# Altium integrated library National Semiconductor LDO.IntLib: 2675 symbols (part 1 of 65)
Pins are listed as number, name and electrical type; pins without a type are passive.

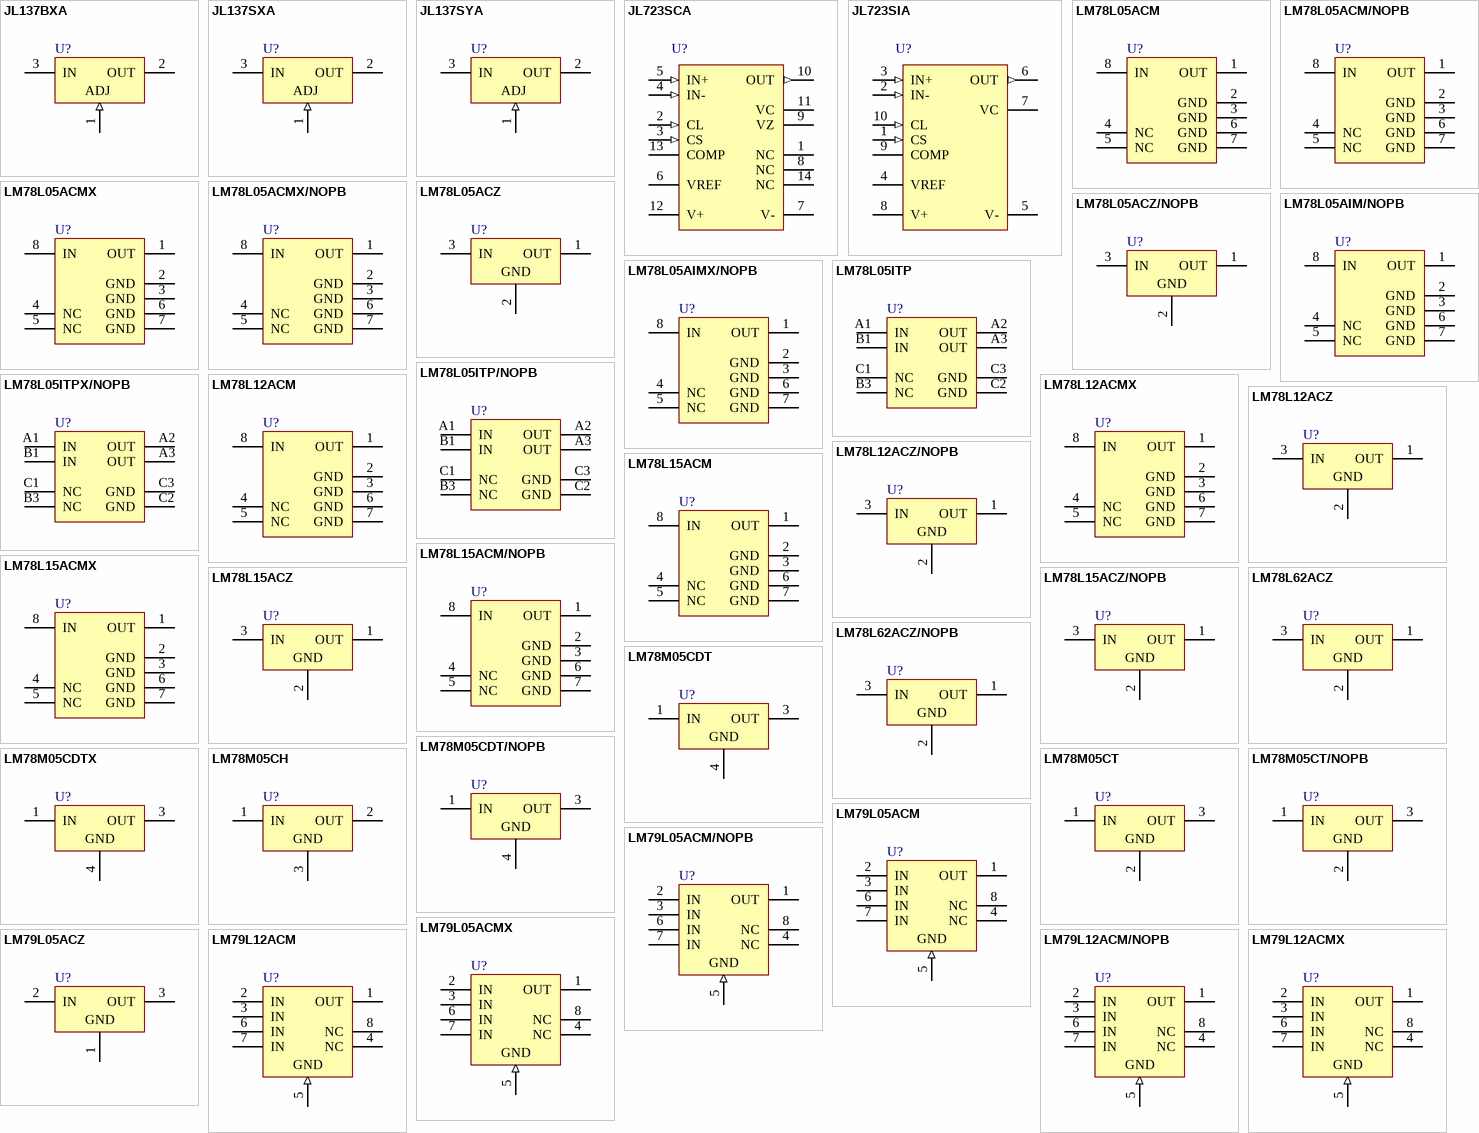
[diagram p0: symbols JL137BXA to LM79L12ACMX]

## JL137BXA
designator U?
3-Terminal Adjustable Negative Regulator, 3-pin TO-39; PartNumber: JL137BXA; Manufacturer: National Semiconductor; PackageTopMarking: NS ZSSXXYYA 27014 Q*JM38510/11803BXA; PowerWise: N; CompType: LDO IC; High-Reliability: Y; DatasheetVersion: Nov-2004; PackageVersion: revD, Feb-1995; PackageReference: H03A; PackageDescription: Metal Can, TO-39, 3 Lead, .200in Dia, P.C.; RoHS: N; PinCount: 3; Code_JEDEC: TO-39; ComponentLink1Description: Manufacturer URL; ComponentLink1URL: http://www.national.com/; ComponentLink2Description: LM137JAN Datasheet; ComponentLink2URL: http://www.national.com/ds/LM/LM137JAN.pdf; ComponentLink3Description: LM137JAN Web Page; ComponentLink3URL: http://www.national.com/pf/LM/LM137JAN.html; ComponentLink4Description: H03A Package Page; ComponentLink4URL: http://www.national.com/packaging/folders/h03a.html
footprint H03A (Can; 3 Leads; Pin Circle Dia. 5.08 mm; Lead Dia. 0.48 mm (max))
pins: 1 ADJ (in), 2 OUT (power), 3 IN (power)

## JL137SXA
designator U?
3-Terminal Adjustable Negative Regulator, 3-pin TO-39; PartNumber: JL137SXA; Manufacturer: National Semiconductor; PackageTopMarking: NS ZSSXXYYA*JM38510/11803SXA; PowerWise: N; CompType: LDO IC; High-Reliability: Y; DatasheetVersion: Nov-2004; PackageVersion: revD, Feb-1995; PackageReference: H03A; PackageDescription: Metal Can, TO-39, 3 Lead, .200in Dia, P.C.; RoHS: N; PinCount: 3; Code_JEDEC: TO-39; ComponentLink1Description: Manufacturer URL; ComponentLink1URL: http://www.national.com/; ComponentLink2Description: LM137JAN Datasheet; ComponentLink2URL: http://www.national.com/ds/LM/LM137JAN.pdf; ComponentLink3Description: LM137JAN Web Page; ComponentLink3URL: http://www.national.com/pf/LM/LM137JAN.html; ComponentLink4Description: H03A Package Page; ComponentLink4URL: http://www.national.com/packaging/folders/h03a.html
footprint H03A (Can; 3 Leads; Pin Circle Dia. 5.08 mm; Lead Dia. 0.48 mm (max))
pins: 1 ADJ (in), 2 OUT (power), 3 IN (power)

## JL137SYA
designator U?
3-Terminal Adjustable Negative Regulator, 3-pin TO-3; PartNumber: JL137SYA; Manufacturer: National Semiconductor; PackageTopMarking: NSZSSXXYYA*JM38510/*11804SYA*27014 Q; PowerWise: N; CompType: LDO IC; High-Reliability: Y; DatasheetVersion: Nov-2004; PackageVersion: revE, Sep-1995; PackageReference: K02C; PackageDescription: Metal Can TO-3, 2 Lead, Low Profile; RoHS: N; PinCount: 2; ComponentLink1Description: Manufacturer URL; ComponentLink1URL: http://www.national.com/; ComponentLink2Description: LM137JAN Datasheet; ComponentLink2URL: http://www.national.com/ds/LM/LM137JAN.pdf; ComponentLink3Description: LM137JAN Web Page; ComponentLink3URL: http://www.national.com/pf/LM/LM137JAN.html; ComponentLink4Description: K02C Package Page; ComponentLink4URL: http://www.national.com/packaging/folders/k02c.html
footprint K02C (Oval Flange Mount with (2) Offset Leads; Pin Spacing 10.92 mm; Lead Dia. 1.09 mm (max))
pins: 1 ADJ (in), 2 OUT (power), 3 IN (power)

## JL723SCA
designator U?
Voltage Regulator, 14-pin CerDIP; PartNumber: JL723SCA; Manufacturer: National Semiconductor; PackageTopMarking: NS ZSSXXYYA*JM38510/10201SCA*27014 Q; PowerWise: N; CompType: LDO IC; High-Reliability: Y; DatasheetVersion: Jun-1999; PackageVersion: revJ, Jul-2002; PackageReference: J14A; PackageDescription: Cerdip, .400 x .310in Body, 14 Lead, .300in Centers, .100in Pitch; RoHS: N; PinCount: 14; ComponentLink1Description: Manufacturer URL; ComponentLink1URL: http://www.national.com/; ComponentLink2Description: LM723JAN Datasheet; ComponentLink2URL: http://www.national.com/ds/LM/LM723JAN.pdf; ComponentLink3Description: LM723JAN Web Page; ComponentLink3URL: http://www.national.com/pf/LM/LM723JAN.html; ComponentLink4Description: J14A Package Page; ComponentLink4URL: http://www.national.com/packaging/folders/j14a.html
footprint J14A (DIP, 14-Leads, Row Spacing 7.62mm, Pitch 2.54mm, Body 19.56x6.73mm)
pins: 1 NC, 2 CL (in), 3 CS (in), 4 IN- (in), 5 IN+ (in), 6 VREF (power), 7 V- (power), 8 NC, 9 VZ (power), 10 OUT (out), 11 VC (power), 12 V+ (power), 13 COMP, 14 NC

## JL723SIA
designator U?
Voltage Regulator, 10-pin TO-100; PartNumber: JL723SIA; Manufacturer: National Semiconductor; PackageTopMarking: NS ZSSXXYYA*JM38510/10201SIA; PowerWise: N; CompType: LDO IC; High-Reliability: Y; DatasheetVersion: Jun-1999; PackageVersion: revG, Nov-2008; PackageReference: H10C; PackageDescription: Metal Can, TO-100, 10 Lead, .230in Dia, P.C.; RoHS: N; PinCount: 10; ComponentLink1Description: Manufacturer URL; ComponentLink1URL: http://www.national.com/; ComponentLink2Description: LM723JAN Datasheet; ComponentLink2URL: http://www.national.com/ds/LM/LM723JAN.pdf; ComponentLink3Description: LM723JAN Web Page; ComponentLink3URL: http://www.national.com/pf/LM/LM723JAN.html; ComponentLink4Description: H10C Package Page; ComponentLink4URL: http://www.national.com/packaging/folders/h10c.html
footprint H10C (Can; 10 Leads; Pin Circle Dia. 5.84 mm; Lead Dia. 0.48 mm (max))
pins: 1 CS (in), 2 IN- (in), 3 IN+ (in), 4 VREF (power), 5 V- (power), 6 OUT (out), 7 VC (power), 8 V+ (power), 9 COMP, 10 CL (in)

## LM78L05ACM
designator U?
3-Terminal Positive Regulator, 5 Vout, 8-pin Narrow SOIC, 95 Rail; PartNumber: LM78L05ACM; Manufacturer: National Semiconductor; PackageTopMarking: NSZXTT*LM78L*05ACM; PowerWise: N; CompType: LDO IC; High-Reliability: Y; DatasheetVersion: Apr-2011; PackageVersion: revM, May-2009; PackageReference: M08A; PackageDescription: SOIC Narrow, 4.9 x 3.9 x 1.45mm, 8 Lead, 1.27mm Pitch; RoHS: N; PinCount: 8; Code_JEDEC: MS-012-AA; Code_IPC: SOIC127P600-8; ComponentLink1Description: Manufacturer URL; ComponentLink1URL: http://www.national.com/; ComponentLink2Description: LM78L05 Datasheet; ComponentLink2URL: http://www.national.com/ds/LM/LM78L05.pdf; ComponentLink3Description: LM78L05 Web Page; ComponentLink3URL: http://www.national.com/pf/LM/LM78L05.html; ComponentLink4Description: M08A Package Page; ComponentLink4URL: http://www.national.com/packaging/folders/m08a.html
footprint M08A_N (SOIC, 8-Leads, Body 4.9x3.9mm, Pitch 1.27mm, IPC Medium Density)
footprint M08A_L (SOIC, 8-Leads, Body 4.9x3.9mm, Pitch 1.27mm, IPC High Density)
footprint M08A_M (SOIC, 8-Leads, Body 4.9x3.9mm, Pitch 1.27mm, IPC Low Density)
pins: 1 OUT (power), 2 GND (power), 3 GND (power), 4 NC, 5 NC, 6 GND (power), 7 GND (power), 8 IN (power)

## LM78L05ACM/NOPB
designator U?
3-Terminal Positive Regulator, 5 Vout, 8-pin Narrow SOIC, Pb-Free, 2500 Reel; PartNumber: LM78L05ACM/NOPB; Manufacturer: National Semiconductor; PackageTopMarking: NSZXTT*LM78L*05ACM; PowerWise: N; CompType: LDO IC; High-Reliability: Y; DatasheetVersion: Apr-2011; PackageVersion: revM, May-2009; PackageReference: M08A; PackageDescription: SOIC Narrow, 4.9 x 3.9 x 1.45mm, 8 Lead, 1.27mm Pitch; RoHS: Y; PinCount: 8; Code_JEDEC: MS-012-AA; Code_IPC: SOIC127P600-8; ComponentLink1Description: Manufacturer URL; ComponentLink1URL: http://www.national.com/; ComponentLink2Description: LM78L05 Datasheet; ComponentLink2URL: http://www.national.com/ds/LM/LM78L05.pdf; ComponentLink3Description: LM78L05 Web Page; ComponentLink3URL: http://www.national.com/pf/LM/LM78L05.html; ComponentLink4Description: M08A Package Page; ComponentLink4URL: http://www.national.com/packaging/folders/m08a.html
footprint M08A_N (SOIC, 8-Leads, Body 4.9x3.9mm, Pitch 1.27mm, IPC Medium Density)
footprint M08A_L (SOIC, 8-Leads, Body 4.9x3.9mm, Pitch 1.27mm, IPC High Density)
footprint M08A_M (SOIC, 8-Leads, Body 4.9x3.9mm, Pitch 1.27mm, IPC Low Density)
pins: 1 OUT (power), 2 GND (power), 3 GND (power), 4 NC, 5 NC, 6 GND (power), 7 GND (power), 8 IN (power)

## LM78L05ACMX
designator U?
3-Terminal Positive Regulator, 5 Vout, 8-pin Narrow SOIC, 2500 Reel; PartNumber: LM78L05ACMX; Manufacturer: National Semiconductor; PackageTopMarking: NSZXTT*LM78L*05ACM; PowerWise: N; CompType: LDO IC; High-Reliability: Y; DatasheetVersion: Apr-2011; PackageVersion: revM, May-2009; PackageReference: M08A; PackageDescription: SOIC Narrow, 4.9 x 3.9 x 1.45mm, 8 Lead, 1.27mm Pitch; RoHS: N; PinCount: 8; Code_JEDEC: MS-012-AA; Code_IPC: SOIC127P600-8; ComponentLink1Description: Manufacturer URL; ComponentLink1URL: http://www.national.com/; ComponentLink2Description: LM78L05 Datasheet; ComponentLink2URL: http://www.national.com/ds/LM/LM78L05.pdf; ComponentLink3Description: LM78L05 Web Page; ComponentLink3URL: http://www.national.com/pf/LM/LM78L05.html; ComponentLink4Description: M08A Package Page; ComponentLink4URL: http://www.national.com/packaging/folders/m08a.html
footprint M08A_N (SOIC, 8-Leads, Body 4.9x3.9mm, Pitch 1.27mm, IPC Medium Density)
footprint M08A_L (SOIC, 8-Leads, Body 4.9x3.9mm, Pitch 1.27mm, IPC High Density)
footprint M08A_M (SOIC, 8-Leads, Body 4.9x3.9mm, Pitch 1.27mm, IPC Low Density)
pins: 1 OUT (power), 2 GND (power), 3 GND (power), 4 NC, 5 NC, 6 GND (power), 7 GND (power), 8 IN (power)

## LM78L05ACMX/NOPB
designator U?
3-Terminal Positive Regulator, 5 Vout, 8-pin Narrow SOIC, 2500 Reel; PartNumber: LM78L05ACMX/NOPB; Manufacturer: National Semiconductor; PowerWise: N; CompType: LDO IC; High-Reliability: Y; DatasheetVersion: Apr-2011; PackageVersion: revM, May-2009; PackageReference: M08A; PackageDescription: SOIC Narrow, 4.9 x 3.9 x 1.45mm, 8 Lead, 1.27mm Pitch; RoHS: Y; PinCount: 8; Code_JEDEC: MS-012-AA; Code_IPC: SOIC127P600-8; ComponentLink1Description: Manufacturer URL; ComponentLink1URL: http://www.national.com/; ComponentLink2Description: LM78L05 Datasheet; ComponentLink2URL: http://www.national.com/ds/LM/LM78L05.pdf; ComponentLink3Description: LM78L05 Web Page; ComponentLink3URL: http://www.national.com/pf/LM/LM78L05.html; ComponentLink4Description: M08A Package Page; ComponentLink4URL: http://www.national.com/packaging/folders/m08a.html
footprint M08A_N (SOIC, 8-Leads, Body 4.9x3.9mm, Pitch 1.27mm, IPC Medium Density)
footprint M08A_L (SOIC, 8-Leads, Body 4.9x3.9mm, Pitch 1.27mm, IPC High Density)
footprint M08A_M (SOIC, 8-Leads, Body 4.9x3.9mm, Pitch 1.27mm, IPC Low Density)
pins: 1 OUT (power), 2 GND (power), 3 GND (power), 4 NC, 5 NC, 6 GND (power), 7 GND (power), 8 IN (power)

## LM78L05ACZ
designator U?
3-Terminal Positive Regulators, 3-pin TO-92; PartNumber: LM78L05ACZ; Manufacturer: National Semiconductor; PackageTopMarking: NSXYTT*LM78L*05ACZ; PowerWise: N; CompType: LDO IC; High-Reliability: Y; DatasheetVersion: Apr-2006; PackageVersion: revG, Sep-2000; PackageReference: Z03A; PackageDescription: TO-92, Molded, 3 Lead; RoHS: N; PinCount: 3; Code_JEDEC: TO-226-AA; ComponentLink1Description: Manufacturer URL; ComponentLink1URL: http://www.national.com/; ComponentLink2Description: LM78L05 Datasheet; ComponentLink2URL: http://www.national.com/ds/LM/LM78L05.pdf; ComponentLink3Description: LM78L05 Web Page; ComponentLink3URL: http://www.national.com/pf/LM/LM78L05.html; ComponentLink4Description: Z03A Package Page; ComponentLink4URL: http://www.national.com/packaging/folders/z03a.html
footprint Z03A (TO, Flat Index; 3 In-Line, Axial Leads; Body Dia. 5mm; Leads 0.55 x 0.50 mm (max))
pins: 1 OUT (power), 2 GND (power), 3 IN (power)

## LM78L05ACZ/NOPB
designator U?
3-Terminal Positive Regulator, 5 Vout, 3-pin TO-92, Pb-Free; PartNumber: LM78L05ACZ/NOPB; Manufacturer: National Semiconductor; PackageTopMarking: NSXYTT*LM78L*05ACZ; PowerWise: N; CompType: LDO IC; High-Reliability: Y; DatasheetVersion: Apr-2011; PackageVersion: revG, Sep-2000; PackageReference: Z03A; PackageDescription: TO-92, Molded, 3 Lead; RoHS: Y; PinCount: 3; Code_JEDEC: TO-226-AA; ComponentLink1Description: Manufacturer URL; ComponentLink1URL: http://www.national.com/; ComponentLink2Description: LM78L05 Datasheet; ComponentLink2URL: http://www.national.com/ds/LM/LM78L05.pdf; ComponentLink3Description: LM78L05 Web Page; ComponentLink3URL: http://www.national.com/pf/LM/LM78L05.html; ComponentLink4Description: Z03A Package Page; ComponentLink4URL: http://www.national.com/packaging/folders/z03a.html
footprint Z03A (TO, Flat Index; 3 In-Line, Axial Leads; Body Dia. 5mm; Leads 0.55 x 0.50 mm (max))
pins: 1 OUT (power), 2 GND (power), 3 IN (power)

## LM78L05AIM/NOPB
designator U?
3-Terminal Positive Regulator, 5 Vout, 8-pin Narrow SOIC, 95 Rail; PartNumber: LM78L05AIM/NOPB; Manufacturer: National Semiconductor; PackageTopMarking: NSZXTT*LM78L*05AM; PowerWise: N; CompType: LDO IC; High-Reliability: Y; DatasheetVersion: Apr-2011; PackageVersion: revM, May-2009; PackageReference: M08A; PackageDescription: SOIC Narrow, 4.9 x 3.9 x 1.45mm, 8 Lead, 1.27mm Pitch; RoHS: Y; PinCount: 8; Code_JEDEC: MS-012-AA; Code_IPC: SOIC127P600-8; ComponentLink1Description: Manufacturer URL; ComponentLink1URL: http://www.national.com/; ComponentLink2Description: LM78L05 Datasheet; ComponentLink2URL: http://www.national.com/ds/LM/LM78L05.pdf; ComponentLink3Description: LM78L05 Web Page; ComponentLink3URL: http://www.national.com/pf/LM/LM78L05.html; ComponentLink4Description: M08A Package Page; ComponentLink4URL: http://www.national.com/packaging/folders/m08a.html
footprint M08A_N (SOIC, 8-Leads, Body 4.9x3.9mm, Pitch 1.27mm, IPC Medium Density)
footprint M08A_L (SOIC, 8-Leads, Body 4.9x3.9mm, Pitch 1.27mm, IPC High Density)
footprint M08A_M (SOIC, 8-Leads, Body 4.9x3.9mm, Pitch 1.27mm, IPC Low Density)
pins: 1 OUT (power), 2 GND (power), 3 GND (power), 4 NC, 5 NC, 6 GND (power), 7 GND (power), 8 IN (power)

## LM78L05AIMX/NOPB
designator U?
3-Terminal Positive Regulator, 5 Vout, 8-pin Narrow SOIC, 2500 Reel; PartNumber: LM78L05AIMX/NOPB; Manufacturer: National Semiconductor; PackageTopMarking: NSZXTT*LM78L*05AM; PowerWise: N; CompType: LDO IC; High-Reliability: Y; DatasheetVersion: Apr-2011; PackageVersion: revM, May-2009; PackageReference: M08A; PackageDescription: SOIC Narrow, 4.9 x 3.9 x 1.45mm, 8 Lead, 1.27mm Pitch; RoHS: Y; PinCount: 8; Code_JEDEC: MS-012-AA; Code_IPC: SOIC127P600-8; ComponentLink1Description: Manufacturer URL; ComponentLink1URL: http://www.national.com/; ComponentLink2Description: LM78L05 Datasheet; ComponentLink2URL: http://www.national.com/ds/LM/LM78L05.pdf; ComponentLink3Description: LM78L05 Web Page; ComponentLink3URL: http://www.national.com/pf/LM/LM78L05.html; ComponentLink4Description: M08A Package Page; ComponentLink4URL: http://www.national.com/packaging/folders/m08a.html
footprint M08A_N (SOIC, 8-Leads, Body 4.9x3.9mm, Pitch 1.27mm, IPC Medium Density)
footprint M08A_L (SOIC, 8-Leads, Body 4.9x3.9mm, Pitch 1.27mm, IPC High Density)
footprint M08A_M (SOIC, 8-Leads, Body 4.9x3.9mm, Pitch 1.27mm, IPC Low Density)
pins: 1 OUT (power), 2 GND (power), 3 GND (power), 4 NC, 5 NC, 6 GND (power), 7 GND (power), 8 IN (power)

## LM78L05ITP
designator U?
3-Terminal Positive Regulators, 8-pin Micro SMD; PartNumber: LM78L05ITP; Manufacturer: National Semiconductor; PackageTopMarking: XVP*I 03; PowerWise: N; CompType: LDO IC; High-Reliability: Y; DatasheetVersion: Apr-2006; PackageVersion: revA, Mar-2002; PackageReference: TPA08AAA; PackageDescription: Thin Micro SMD, 8 Bump, 0.5mm Pitch; RoHS: Y; PinCount: 8; Code_JEDEC: MO-211-BC; ComponentLink1Description: Manufacturer URL; ComponentLink1URL: http://www.national.com/; ComponentLink2Description: LM78L05 Datasheet; ComponentLink2URL: http://www.national.com/ds/LM/LM78L05.pdf; ComponentLink3Description: LM78L05 Web Page; ComponentLink3URL: http://www.national.com/pf/LM/LM78L05.html; ComponentLink4Description: TPA08AAA Package Page; ComponentLink4URL: http://www.national.com/packaging/folders/tpa08aaa.html
footprint TPA08AAA (Micro SMD, 8-Leads, Body 1.29x1.29mm, Pitch 0.5mm, NSC Recommended)
pins: A1 IN (power), A2 OUT (power), A3 OUT (power), B1 IN (power), B3 NC, C1 NC, C2 GND (power), C3 GND (power)

## LM78L05ITP/NOPB
designator U?
3-Terminal Positive Regulator, 5 Vout, 8-pin Micro SMD, Pb-Free, 250 Reel; PartNumber: LM78L05ITP/NOPB; Manufacturer: National Semiconductor; PackageTopMarking: XVP*I 03; PowerWise: N; CompType: LDO IC; High-Reliability: Y; DatasheetVersion: Apr-2011; PackageVersion: revA, Mar-2002; PackageReference: TPA08AAA; PackageDescription: Thin Micro SMD, 8 Bump, 0.5mm Pitch; RoHS: Y; PinCount: 8; Code_JEDEC: MO-211-BC; ComponentLink1Description: Manufacturer URL; ComponentLink1URL: http://www.national.com/; ComponentLink2Description: LM78L05 Datasheet; ComponentLink2URL: http://www.national.com/ds/LM/LM78L05.pdf; ComponentLink3Description: LM78L05 Web Page; ComponentLink3URL: http://www.national.com/pf/LM/LM78L05.html; ComponentLink4Description: TPA08AAA Package Page; ComponentLink4URL: http://www.national.com/packaging/folders/tpa08aaa.html
footprint TPA08AAA (Micro SMD, 8-Leads, Body 1.29x1.29mm, Pitch 0.5mm, NSC Recommended)
pins: A1 IN (power), A2 OUT (power), A3 OUT (power), B1 IN (power), B3 NC, C1 NC, C2 GND (power), C3 GND (power)

## LM78L05ITPX/NOPB
designator U?
3-Terminal Positive Regulator, 5 Vout, 8-pin Micro SMD, Pb-Free, 3000 Reel; PartNumber: LM78L05ITPX/NOPB; Manufacturer: National Semiconductor; PackageTopMarking: XVP*I 03; PowerWise: N; CompType: LDO IC; High-Reliability: Y; DatasheetVersion: Apr-2011; PackageVersion: revA, Mar-2002; PackageReference: TPA08AAA; PackageDescription: Thin Micro SMD, 8 Bump, 0.5mm Pitch; RoHS: Y; PinCount: 8; Code_JEDEC: MO-211-BC; ComponentLink1Description: Manufacturer URL; ComponentLink1URL: http://www.national.com/; ComponentLink2Description: LM78L05 Datasheet; ComponentLink2URL: http://www.national.com/ds/LM/LM78L05.pdf; ComponentLink3Description: LM78L05 Web Page; ComponentLink3URL: http://www.national.com/pf/LM/LM78L05.html; ComponentLink4Description: TPA08AAA Package Page; ComponentLink4URL: http://www.national.com/packaging/folders/tpa08aaa.html
footprint TPA08AAA (Micro SMD, 8-Leads, Body 1.29x1.29mm, Pitch 0.5mm, NSC Recommended)
pins: A1 IN (power), A2 OUT (power), A3 OUT (power), B1 IN (power), B3 NC, C1 NC, C2 GND (power), C3 GND (power)

## LM78L12ACM
designator U?
3-Terminal Positive Regulators, 8-pin Narrow SOIC; PartNumber: LM78L12ACM; Manufacturer: National Semiconductor; PackageTopMarking: NSZXTT*LM78L*12ACM; PowerWise: N; CompType: LDO IC; High-Reliability: Y; DatasheetVersion: Apr-2006; PackageVersion: revM, May-2009; PackageReference: M08A; PackageDescription: SOIC Narrow, 4.9 x 3.9 x 1.45mm, 8 Lead, 1.27mm Pitch; RoHS: N; PinCount: 8; Code_JEDEC: MS-012-AA; Code_IPC: SOIC127P600-8; ComponentLink1Description: Manufacturer URL; ComponentLink1URL: http://www.national.com/; ComponentLink2Description: LM78L12 Datasheet; ComponentLink2URL: http://www.national.com/ds/LM/LM78L12.pdf; ComponentLink3Description: LM78L12 Web Page; ComponentLink3URL: http://www.national.com/pf/LM/LM78L12.html; ComponentLink4Description: M08A Package Page; ComponentLink4URL: http://www.national.com/packaging/folders/m08a.html
footprint M08A_N (SOIC, 8-Leads, Body 4.9x3.9mm, Pitch 1.27mm, IPC Medium Density)
footprint M08A_L (SOIC, 8-Leads, Body 4.9x3.9mm, Pitch 1.27mm, IPC High Density)
footprint M08A_M (SOIC, 8-Leads, Body 4.9x3.9mm, Pitch 1.27mm, IPC Low Density)
pins: 1 OUT (power), 2 GND (power), 3 GND (power), 4 NC, 5 NC, 6 GND (power), 7 GND (power), 8 IN (power)

## LM78L12ACMX
designator U?
3-Terminal Positive Regulators, 8-pin Narrow SOIC; PartNumber: LM78L12ACMX; Manufacturer: National Semiconductor; PackageTopMarking: NSZXTT*LM78L*12ACM; PowerWise: N; CompType: LDO IC; High-Reliability: Y; DatasheetVersion: Apr-2006; PackageVersion: revM, May-2009; PackageReference: M08A; PackageDescription: SOIC Narrow, 4.9 x 3.9 x 1.45mm, 8 Lead, 1.27mm Pitch; RoHS: N; PinCount: 8; Code_JEDEC: MS-012-AA; Code_IPC: SOIC127P600-8; ComponentLink1Description: Manufacturer URL; ComponentLink1URL: http://www.national.com/; ComponentLink2Description: LM78L12 Datasheet; ComponentLink2URL: http://www.national.com/ds/LM/LM78L12.pdf; ComponentLink3Description: LM78L12 Web Page; ComponentLink3URL: http://www.national.com/pf/LM/LM78L12.html; ComponentLink4Description: M08A Package Page; ComponentLink4URL: http://www.national.com/packaging/folders/m08a.html
footprint M08A_N (SOIC, 8-Leads, Body 4.9x3.9mm, Pitch 1.27mm, IPC Medium Density)
footprint M08A_L (SOIC, 8-Leads, Body 4.9x3.9mm, Pitch 1.27mm, IPC High Density)
footprint M08A_M (SOIC, 8-Leads, Body 4.9x3.9mm, Pitch 1.27mm, IPC Low Density)
pins: 1 OUT (power), 2 GND (power), 3 GND (power), 4 NC, 5 NC, 6 GND (power), 7 GND (power), 8 IN (power)

## LM78L12ACZ
designator U?
3-Terminal Positive Regulators, 3-pin TO-92; PartNumber: LM78L12ACZ; Manufacturer: National Semiconductor; PackageTopMarking: NSXYTT*LM78L*12ACZ; PowerWise: N; CompType: LDO IC; High-Reliability: Y; DatasheetVersion: Apr-2006; PackageVersion: revG, Sep-2000; PackageReference: Z03A; PackageDescription: TO-92, Molded, 3 Lead; RoHS: N; PinCount: 3; Code_JEDEC: TO-226-AA; ComponentLink1Description: Manufacturer URL; ComponentLink1URL: http://www.national.com/; ComponentLink2Description: LM78L12 Datasheet; ComponentLink2URL: http://www.national.com/ds/LM/LM78L12.pdf; ComponentLink3Description: LM78L12 Web Page; ComponentLink3URL: http://www.national.com/pf/LM/LM78L12.html; ComponentLink4Description: Z03A Package Page; ComponentLink4URL: http://www.national.com/packaging/folders/z03a.html
footprint Z03A (TO, Flat Index; 3 In-Line, Axial Leads; Body Dia. 5mm; Leads 0.55 x 0.50 mm (max))
pins: 1 OUT (power), 2 GND (power), 3 IN (power)

## LM78L12ACZ/NOPB
designator U?
3-Terminal Positive Regulators, 3-pin TO-92, Pb-Free; PartNumber: LM78L12ACZ/NOPB; Manufacturer: National Semiconductor; PackageTopMarking: NSXYTT*LM78L*12ACZ; PowerWise: N; CompType: LDO IC; High-Reliability: Y; DatasheetVersion: Apr-2006; PackageVersion: revG, Sep-2000; PackageReference: Z03A; PackageDescription: TO-92, Molded, 3 Lead; RoHS: Y; PinCount: 3; Code_JEDEC: TO-226-AA; ComponentLink1Description: Manufacturer URL; ComponentLink1URL: http://www.national.com/; ComponentLink2Description: LM78L12 Datasheet; ComponentLink2URL: http://www.national.com/ds/LM/LM78L12.pdf; ComponentLink3Description: LM78L12 Web Page; ComponentLink3URL: http://www.national.com/pf/LM/LM78L12.html; ComponentLink4Description: Z03A Package Page; ComponentLink4URL: http://www.national.com/packaging/folders/z03a.html
footprint Z03A (TO, Flat Index; 3 In-Line, Axial Leads; Body Dia. 5mm; Leads 0.55 x 0.50 mm (max))
pins: 1 OUT (power), 2 GND (power), 3 IN (power)

## LM78L15ACM
designator U?
3-Terminal Positive Regulators, 8-pin Narrow SOIC; PartNumber: LM78L15ACM; Manufacturer: National Semiconductor; PackageTopMarking: NSZXTT*LM78L*15ACM; PowerWise: N; CompType: LDO IC; High-Reliability: Y; DatasheetVersion: Apr-2006; PackageVersion: revM, May-2009; PackageReference: M08A; PackageDescription: SOIC Narrow, 4.9 x 3.9 x 1.45mm, 8 Lead, 1.27mm Pitch; RoHS: N; PinCount: 8; Code_JEDEC: MS-012-AA; Code_IPC: SOIC127P600-8; ComponentLink1Description: Manufacturer URL; ComponentLink1URL: http://www.national.com/; ComponentLink2Description: LM78L15 Datasheet; ComponentLink2URL: http://www.national.com/ds/LM/LM78L15.pdf; ComponentLink3Description: LM78L15 Web Page; ComponentLink3URL: http://www.national.com/pf/LM/LM78L15.html; ComponentLink4Description: M08A Package Page; ComponentLink4URL: http://www.national.com/packaging/folders/m08a.html
footprint M08A_N (SOIC, 8-Leads, Body 4.9x3.9mm, Pitch 1.27mm, IPC Medium Density)
footprint M08A_L (SOIC, 8-Leads, Body 4.9x3.9mm, Pitch 1.27mm, IPC High Density)
footprint M08A_M (SOIC, 8-Leads, Body 4.9x3.9mm, Pitch 1.27mm, IPC Low Density)
pins: 1 OUT (power), 2 GND (power), 3 GND (power), 4 NC, 5 NC, 6 GND (power), 7 GND (power), 8 IN (power)

## LM78L15ACM/NOPB
designator U?
3-Terminal Positive Regulators, 8-pin Narrow SOIC, Pb-Free; PartNumber: LM78L15ACM/NOPB; Manufacturer: National Semiconductor; PackageTopMarking: NSZXTT*LM78L*15ACM; PowerWise: N; CompType: LDO IC; High-Reliability: Y; DatasheetVersion: Apr-2006; PackageVersion: revM, May-2009; PackageReference: M08A; PackageDescription: SOIC Narrow, 4.9 x 3.9 x 1.45mm, 8 Lead, 1.27mm Pitch; RoHS: Y; PinCount: 8; Code_JEDEC: MS-012-AA; Code_IPC: SOIC127P600-8; ComponentLink1Description: Manufacturer URL; ComponentLink1URL: http://www.national.com/; ComponentLink2Description: LM78L15 Datasheet; ComponentLink2URL: http://www.national.com/ds/LM/LM78L15.pdf; ComponentLink3Description: LM78L15 Web Page; ComponentLink3URL: http://www.national.com/pf/LM/LM78L15.html; ComponentLink4Description: M08A Package Page; ComponentLink4URL: http://www.national.com/packaging/folders/m08a.html
footprint M08A_N (SOIC, 8-Leads, Body 4.9x3.9mm, Pitch 1.27mm, IPC Medium Density)
footprint M08A_L (SOIC, 8-Leads, Body 4.9x3.9mm, Pitch 1.27mm, IPC High Density)
footprint M08A_M (SOIC, 8-Leads, Body 4.9x3.9mm, Pitch 1.27mm, IPC Low Density)
pins: 1 OUT (power), 2 GND (power), 3 GND (power), 4 NC, 5 NC, 6 GND (power), 7 GND (power), 8 IN (power)

## LM78L15ACMX
designator U?
3-Terminal Positive Regulators, 8-pin Narrow SOIC; PartNumber: LM78L15ACMX; Manufacturer: National Semiconductor; PackageTopMarking: NSZXTT*LM78L*15ACM; PowerWise: N; CompType: LDO IC; High-Reliability: Y; DatasheetVersion: Apr-2006; PackageVersion: revM, May-2009; PackageReference: M08A; PackageDescription: SOIC Narrow, 4.9 x 3.9 x 1.45mm, 8 Lead, 1.27mm Pitch; RoHS: N; PinCount: 8; Code_JEDEC: MS-012-AA; Code_IPC: SOIC127P600-8; ComponentLink1Description: Manufacturer URL; ComponentLink1URL: http://www.national.com/; ComponentLink2Description: LM78L15 Datasheet; ComponentLink2URL: http://www.national.com/ds/LM/LM78L15.pdf; ComponentLink3Description: LM78L15 Web Page; ComponentLink3URL: http://www.national.com/pf/LM/LM78L15.html; ComponentLink4Description: M08A Package Page; ComponentLink4URL: http://www.national.com/packaging/folders/m08a.html
footprint M08A_N (SOIC, 8-Leads, Body 4.9x3.9mm, Pitch 1.27mm, IPC Medium Density)
footprint M08A_L (SOIC, 8-Leads, Body 4.9x3.9mm, Pitch 1.27mm, IPC High Density)
footprint M08A_M (SOIC, 8-Leads, Body 4.9x3.9mm, Pitch 1.27mm, IPC Low Density)
pins: 1 OUT (power), 2 GND (power), 3 GND (power), 4 NC, 5 NC, 6 GND (power), 7 GND (power), 8 IN (power)

## LM78L15ACZ
designator U?
3-Terminal Positive Regulators, 3-pin TO-92; PartNumber: LM78L15ACZ; Manufacturer: National Semiconductor; PackageTopMarking: NSXYTT*LM78L*15ACZ; PowerWise: N; CompType: LDO IC; High-Reliability: Y; DatasheetVersion: Apr-2006; PackageVersion: revG, Sep-2000; PackageReference: Z03A; PackageDescription: TO-92, Molded, 3 Lead; RoHS: N; PinCount: 3; Code_JEDEC: TO-226-AA; ComponentLink1Description: Manufacturer URL; ComponentLink1URL: http://www.national.com/; ComponentLink2Description: LM78L15 Datasheet; ComponentLink2URL: http://www.national.com/ds/LM/LM78L15.pdf; ComponentLink3Description: LM78L15 Web Page; ComponentLink3URL: http://www.national.com/pf/LM/LM78L15.html; ComponentLink4Description: Z03A Package Page; ComponentLink4URL: http://www.national.com/packaging/folders/z03a.html
footprint Z03A (TO, Flat Index; 3 In-Line, Axial Leads; Body Dia. 5mm; Leads 0.55 x 0.50 mm (max))
pins: 1 OUT (power), 2 GND (power), 3 IN (power)

## LM78L15ACZ/NOPB
designator U?
3-Terminal Positive Regulators, 3-pin TO-92, Pb-Free; PartNumber: LM78L15ACZ/NOPB; Manufacturer: National Semiconductor; PackageTopMarking: NSXYTT*LM78L*15ACZ; PowerWise: N; CompType: LDO IC; High-Reliability: Y; DatasheetVersion: Apr-2006; PackageVersion: revG, Sep-2000; PackageReference: Z03A; PackageDescription: TO-92, Molded, 3 Lead; RoHS: Y; PinCount: 3; Code_JEDEC: TO-226-AA; ComponentLink1Description: Manufacturer URL; ComponentLink1URL: http://www.national.com/; ComponentLink2Description: LM78L15 Datasheet; ComponentLink2URL: http://www.national.com/ds/LM/LM78L15.pdf; ComponentLink3Description: LM78L15 Web Page; ComponentLink3URL: http://www.national.com/pf/LM/LM78L15.html; ComponentLink4Description: Z03A Package Page; ComponentLink4URL: http://www.national.com/packaging/folders/z03a.html
footprint Z03A (TO, Flat Index; 3 In-Line, Axial Leads; Body Dia. 5mm; Leads 0.55 x 0.50 mm (max))
pins: 1 OUT (power), 2 GND (power), 3 IN (power)

## LM78L62ACZ
designator U?
3-Terminal Positive Regulators, 3-pin TO-92; PartNumber: LM78L62ACZ; Manufacturer: National Semiconductor; PackageTopMarking: NSXYTT*LM78L*62ACZ; PowerWise: N; CompType: LDO IC; High-Reliability: Y; DatasheetVersion: Apr-2006; PackageVersion: revG, Sep-2000; PackageReference: Z03A; PackageDescription: TO-92, Molded, 3 Lead; RoHS: N; PinCount: 3; Code_JEDEC: TO-226-AA; ComponentLink1Description: Manufacturer URL; ComponentLink1URL: http://www.national.com/; ComponentLink2Description: LM78L62 Datasheet; ComponentLink2URL: http://www.national.com/ds/LM/LM78L62.pdf; ComponentLink3Description: LM78L62 Web Page; ComponentLink3URL: http://www.national.com/pf/LM/LM78L62.html; ComponentLink4Description: Z03A Package Page; ComponentLink4URL: http://www.national.com/packaging/folders/z03a.html
footprint Z03A (TO, Flat Index; 3 In-Line, Axial Leads; Body Dia. 5mm; Leads 0.55 x 0.50 mm (max))
pins: 1 OUT (power), 2 GND (power), 3 IN (power)

## LM78L62ACZ/NOPB
designator U?
3-Terminal Positive Regulators, 3-pin TO-92, Pb-Free; PartNumber: LM78L62ACZ/NOPB; Manufacturer: National Semiconductor; PackageTopMarking: NSXYTT*LM78L*62ACZ; PowerWise: N; CompType: LDO IC; High-Reliability: Y; DatasheetVersion: Apr-2006; PackageVersion: revG, Sep-2000; PackageReference: Z03A; PackageDescription: TO-92, Molded, 3 Lead; RoHS: Y; PinCount: 3; Code_JEDEC: TO-226-AA; ComponentLink1Description: Manufacturer URL; ComponentLink1URL: http://www.national.com/; ComponentLink2Description: LM78L62 Datasheet; ComponentLink2URL: http://www.national.com/ds/LM/LM78L62.pdf; ComponentLink3Description: LM78L62 Web Page; ComponentLink3URL: http://www.national.com/pf/LM/LM78L62.html; ComponentLink4Description: Z03A Package Page; ComponentLink4URL: http://www.national.com/packaging/folders/z03a.html
footprint Z03A (TO, Flat Index; 3 In-Line, Axial Leads; Body Dia. 5mm; Leads 0.55 x 0.50 mm (max))
pins: 1 OUT (power), 2 GND (power), 3 IN (power)

## LM78M05CDT
designator U?
3-Terminal Positive Voltage Regulators, 3-pin TO-252; PartNumber: LM78M05CDT; Manufacturer: National Semiconductor; PackageTopMarking: NSUZXYTT*LM78M05*CDT; PowerWise: N; CompType: LDO IC; High-Reliability: Y; DatasheetVersion: Aug-2005; PackageVersion: revD, Feb-2009; PackageReference: TD03B; PackageDescription: TO252, Molded, Jedec, 6.8 x 6.10 x 2.30mm Body, 3 Lead, 2.28mm Pitch, Surface Mount; RoHS: N; PinCount: 3; Code_JEDEC: TO-252-AA; ComponentLink1Description: Manufacturer URL; ComponentLink1URL: http://www.national.com/; ComponentLink2Description: LM78M05 Datasheet; ComponentLink2URL: http://www.national.com/ds/LM/LM78M05.pdf; ComponentLink3Description: LM78M05 Web Page; ComponentLink3URL: http://www.national.com/pf/LM/LM78M05.html; ComponentLink4Description: TD03B Package Page; ComponentLink4URL: http://www.national.com/packaging/folders/td03b.html
footprint TD03B_N (D-PAK, 4-Leads, Body 6.1x6.6mm, Pitch 2.29mm, Lead Span 9.7mm, IPC Medium Density)
footprint TD03B_L (D-PAK, 4-Leads, Body 6.1x6.6mm, Pitch 2.29mm, Lead Span 9.7mm, IPC High Density)
footprint TD03B_M (D-PAK, 4-Leads, Body 6.1x6.6mm, Pitch 2.29mm, Lead Span 9.7mm, IPC Low Density)
pins: 1 IN (power), 3 OUT (power), 4 GND (power)

## LM78M05CDT/NOPB
designator U?
3-Terminal Positive Voltage Regulators, 3-pin TO-252, Pb-Free; PartNumber: LM78M05CDT/NOPB; Manufacturer: National Semiconductor; PackageTopMarking: NSUZXYTT*LM78M05*CDT; PowerWise: N; CompType: LDO IC; High-Reliability: Y; DatasheetVersion: Aug-2005; PackageVersion: revD, Feb-2009; PackageReference: TD03B; PackageDescription: TO252, Molded, Jedec, 6.8 x 6.10 x 2.30mm Body, 3 Lead, 2.28mm Pitch, Surface Mount; RoHS: Y; PinCount: 3; Code_JEDEC: TO-252-AA; ComponentLink1Description: Manufacturer URL; ComponentLink1URL: http://www.national.com/; ComponentLink2Description: LM78M05 Datasheet; ComponentLink2URL: http://www.national.com/ds/LM/LM78M05.pdf; ComponentLink3Description: LM78M05 Web Page; ComponentLink3URL: http://www.national.com/pf/LM/LM78M05.html; ComponentLink4Description: TD03B Package Page; ComponentLink4URL: http://www.national.com/packaging/folders/td03b.html
footprint TD03B_N (D-PAK, 4-Leads, Body 6.1x6.6mm, Pitch 2.29mm, Lead Span 9.7mm, IPC Medium Density)
footprint TD03B_L (D-PAK, 4-Leads, Body 6.1x6.6mm, Pitch 2.29mm, Lead Span 9.7mm, IPC High Density)
footprint TD03B_M (D-PAK, 4-Leads, Body 6.1x6.6mm, Pitch 2.29mm, Lead Span 9.7mm, IPC Low Density)
pins: 1 IN (power), 3 OUT (power), 4 GND (power)

## LM78M05CDTX
designator U?
3-Terminal Positive Voltage Regulators, 3-pin TO-252; PartNumber: LM78M05CDTX; Manufacturer: National Semiconductor; PackageTopMarking: NSUZXYTT*LM78M05*CDT; PowerWise: N; CompType: LDO IC; High-Reliability: Y; DatasheetVersion: Aug-2005; PackageVersion: revD, Feb-2009; PackageReference: TD03B; PackageDescription: TO252, Molded, Jedec, 6.8 x 6.10 x 2.30mm Body, 3 Lead, 2.28mm Pitch, Surface Mount; RoHS: N; PinCount: 3; Code_JEDEC: TO-252-AA; ComponentLink1Description: Manufacturer URL; ComponentLink1URL: http://www.national.com/; ComponentLink2Description: LM78M05 Datasheet; ComponentLink2URL: http://www.national.com/ds/LM/LM78M05.pdf; ComponentLink3Description: LM78M05 Web Page; ComponentLink3URL: http://www.national.com/pf/LM/LM78M05.html; ComponentLink4Description: TD03B Package Page; ComponentLink4URL: http://www.national.com/packaging/folders/td03b.html
footprint TD03B_N (D-PAK, 4-Leads, Body 6.1x6.6mm, Pitch 2.29mm, Lead Span 9.7mm, IPC Medium Density)
footprint TD03B_L (D-PAK, 4-Leads, Body 6.1x6.6mm, Pitch 2.29mm, Lead Span 9.7mm, IPC High Density)
footprint TD03B_M (D-PAK, 4-Leads, Body 6.1x6.6mm, Pitch 2.29mm, Lead Span 9.7mm, IPC Low Density)
pins: 1 IN (power), 3 OUT (power), 4 GND (power)

## LM78M05CH
designator U?
3-Terminal Positive Voltage Regulators, 3-pin TO-39; PartNumber: LM78M05CH; Manufacturer: National Semiconductor; PackageTopMarking: NSZXYTTE# LM78M05CH; PowerWise: N; CompType: LDO IC; High-Reliability: Y; DatasheetVersion: Aug-2005; PackageVersion: revD, Feb-1995; PackageReference: H03A; PackageDescription: Metal Can, TO-39, 3 Lead, .200in Dia, P.C.; RoHS: N; PinCount: 3; Code_JEDEC: TO-39; ComponentLink1Description: Manufacturer URL; ComponentLink1URL: http://www.national.com/; ComponentLink2Description: LM78M05 Datasheet; ComponentLink2URL: http://www.national.com/ds/LM/LM78M05.pdf; ComponentLink3Description: LM78M05 Web Page; ComponentLink3URL: http://www.national.com/pf/LM/LM78M05.html; ComponentLink4Description: H03A Package Page; ComponentLink4URL: http://www.national.com/packaging/folders/h03a.html
footprint H03A (Can; 3 Leads; Pin Circle Dia. 5.08 mm; Lead Dia. 0.48 mm (max))
pins: 1 IN (power), 2 OUT (power), 3 GND (power)

## LM78M05CT
designator U?
3-Terminal Positive Voltage Regulators, 3-pin TO-220; PartNumber: LM78M05CT; Manufacturer: National Semiconductor; PackageTopMarking: NSUZXYTTE#*LM341T-5.0*LM78M05CT; PowerWise: N; CompType: LDO IC; High-Reliability: Y; DatasheetVersion: Aug-2005; PackageVersion: revL, Jan-1992; PackageReference: T03B; PackageDescription: TO-220, Molded, 3 Lead, Straight; RoHS: N; PinCount: 3; ComponentLink1Description: Manufacturer URL; ComponentLink1URL: http://www.national.com/; ComponentLink2Description: LM78M05 Datasheet; ComponentLink2URL: http://www.national.com/ds/LM/LM78M05.pdf; ComponentLink3Description: LM78M05 Web Page; ComponentLink3URL: http://www.national.com/pf/LM/LM78M05.html; ComponentLink4Description: T03B Package Page; ComponentLink4URL: http://www.national.com/packaging/folders/t03b.html
footprint T03B (TO, Thru-Hole, Vertical, Heatsink Mounted; 3 In-Line Leads; Pitch 2.54 mm)
pins: 1 IN (power), 2 GND (power), 3 OUT (power)

## LM78M05CT/NOPB
designator U?
3-Terminal Positive Voltage Regulators, 3-pin TO-220, Pb-Free; PartNumber: LM78M05CT/NOPB; Manufacturer: National Semiconductor; PackageTopMarking: NSUZXYTTE#*LM341T-5.0*LM78M05CT; PowerWise: N; CompType: LDO IC; High-Reliability: Y; DatasheetVersion: Aug-2005; PackageVersion: revL, Jan-1992; PackageReference: T03B; PackageDescription: TO-220, Molded, 3 Lead, Straight; RoHS: Y; PinCount: 3; ComponentLink1Description: Manufacturer URL; ComponentLink1URL: http://www.national.com/; ComponentLink2Description: LM78M05 Datasheet; ComponentLink2URL: http://www.national.com/ds/LM/LM78M05.pdf; ComponentLink3Description: LM78M05 Web Page; ComponentLink3URL: http://www.national.com/pf/LM/LM78M05.html; ComponentLink4Description: T03B Package Page; ComponentLink4URL: http://www.national.com/packaging/folders/t03b.html
footprint T03B (TO, Thru-Hole, Vertical, Heatsink Mounted; 3 In-Line Leads; Pitch 2.54 mm)
pins: 1 IN (power), 2 GND (power), 3 OUT (power)

## LM79L05ACM
designator U?
Series 3-Terminal Negative Regulators, 8-pin Narrow SOIC; PartNumber: LM79L05ACM; Manufacturer: National Semiconductor; PackageTopMarking: NSZXTT*LM79L*05ACM; PowerWise: N; CompType: LDO IC; High-Reliability: Y; DatasheetVersion: Mar-2006; PackageVersion: revM, May-2009; PackageReference: M08A; PackageDescription: SOIC Narrow, 4.9 x 3.9 x 1.45mm, 8 Lead, 1.27mm Pitch; RoHS: N; PinCount: 8; Code_JEDEC: MS-012-AA; Code_IPC: SOIC127P600-8; ComponentLink1Description: Manufacturer URL; ComponentLink1URL: http://www.national.com/; ComponentLink2Description: LM79L05AC Datasheet; ComponentLink2URL: http://www.national.com/ds/LM/LM79L05.pdf; ComponentLink3Description: LM79L05AC Web Page; ComponentLink3URL: http://www.national.com/pf/LM/LM79L05AC.html; ComponentLink4Description: M08A Package Page; ComponentLink4URL: http://www.national.com/packaging/folders/m08a.html
footprint M08A_N (SOIC, 8-Leads, Body 4.9x3.9mm, Pitch 1.27mm, IPC Medium Density)
footprint M08A_L (SOIC, 8-Leads, Body 4.9x3.9mm, Pitch 1.27mm, IPC High Density)
footprint M08A_M (SOIC, 8-Leads, Body 4.9x3.9mm, Pitch 1.27mm, IPC Low Density)
pins: 1 OUT (power), 2 IN (power), 3 IN (power), 4 NC, 5 GND (in), 6 IN (power), 7 IN (power), 8 NC

## LM79L05ACM/NOPB
designator U?
Series 3-Terminal Negative Regulators, 8-pin Narrow SOIC, Pb-Free; PartNumber: LM79L05ACM/NOPB; Manufacturer: National Semiconductor; PackageTopMarking: NSZXTT*LM79L*05ACM; PowerWise: N; CompType: LDO IC; High-Reliability: Y; DatasheetVersion: Mar-2006; PackageVersion: revM, May-2009; PackageReference: M08A; PackageDescription: SOIC Narrow, 4.9 x 3.9 x 1.45mm, 8 Lead, 1.27mm Pitch; RoHS: Y; PinCount: 8; Code_JEDEC: MS-012-AA; Code_IPC: SOIC127P600-8; ComponentLink1Description: Manufacturer URL; ComponentLink1URL: http://www.national.com/; ComponentLink2Description: LM79L05AC Datasheet; ComponentLink2URL: http://www.national.com/ds/LM/LM79L05.pdf; ComponentLink3Description: LM79L05AC Web Page; ComponentLink3URL: http://www.national.com/pf/LM/LM79L05AC.html; ComponentLink4Description: M08A Package Page; ComponentLink4URL: http://www.national.com/packaging/folders/m08a.html
footprint M08A_N (SOIC, 8-Leads, Body 4.9x3.9mm, Pitch 1.27mm, IPC Medium Density)
footprint M08A_L (SOIC, 8-Leads, Body 4.9x3.9mm, Pitch 1.27mm, IPC High Density)
footprint M08A_M (SOIC, 8-Leads, Body 4.9x3.9mm, Pitch 1.27mm, IPC Low Density)
pins: 1 OUT (power), 2 IN (power), 3 IN (power), 4 NC, 5 GND (in), 6 IN (power), 7 IN (power), 8 NC

## LM79L05ACMX
designator U?
Series 3-Terminal Negative Regulators, 8-pin Narrow SOIC; PartNumber: LM79L05ACMX; Manufacturer: National Semiconductor; PackageTopMarking: NSZXTT*LM79L*05ACM; PowerWise: N; CompType: LDO IC; High-Reliability: Y; DatasheetVersion: Mar-2006; PackageVersion: revM, May-2009; PackageReference: M08A; PackageDescription: SOIC Narrow, 4.9 x 3.9 x 1.45mm, 8 Lead, 1.27mm Pitch; RoHS: N; PinCount: 8; Code_JEDEC: MS-012-AA; Code_IPC: SOIC127P600-8; ComponentLink1Description: Manufacturer URL; ComponentLink1URL: http://www.national.com/; ComponentLink2Description: LM79L05AC Datasheet; ComponentLink2URL: http://www.national.com/ds/LM/LM79L05.pdf; ComponentLink3Description: LM79L05AC Web Page; ComponentLink3URL: http://www.national.com/pf/LM/LM79L05AC.html; ComponentLink4Description: M08A Package Page; ComponentLink4URL: http://www.national.com/packaging/folders/m08a.html
footprint M08A_N (SOIC, 8-Leads, Body 4.9x3.9mm, Pitch 1.27mm, IPC Medium Density)
footprint M08A_L (SOIC, 8-Leads, Body 4.9x3.9mm, Pitch 1.27mm, IPC High Density)
footprint M08A_M (SOIC, 8-Leads, Body 4.9x3.9mm, Pitch 1.27mm, IPC Low Density)
pins: 1 OUT (power), 2 IN (power), 3 IN (power), 4 NC, 5 GND (in), 6 IN (power), 7 IN (power), 8 NC

## LM79L05ACZ
designator U?
Series 3-Terminal Negative Regulators, 3-pin TO-92; PartNumber: LM79L05ACZ; Manufacturer: National Semiconductor; PackageTopMarking: NSXYTT*320L*79L05; PowerWise: N; CompType: LDO IC; High-Reliability: Y; DatasheetVersion: Mar-2006; PackageVersion: revG, Sep-2000; PackageReference: Z03A; PackageDescription: TO-92, Molded, 3 Lead; RoHS: N; PinCount: 3; Code_JEDEC: TO-226-AA; ComponentLink1Description: Manufacturer URL; ComponentLink1URL: http://www.national.com/; ComponentLink2Description: LM79L05AC Datasheet; ComponentLink2URL: http://www.national.com/ds/LM/LM79L05.pdf; ComponentLink3Description: LM79L05AC Web Page; ComponentLink3URL: http://www.national.com/pf/LM/LM79L05AC.html; ComponentLink4Description: Z03A Package Page; ComponentLink4URL: http://www.national.com/packaging/folders/z03a.html
footprint Z03A (TO, Flat Index; 3 In-Line, Axial Leads; Body Dia. 5mm; Leads 0.55 x 0.50 mm (max))
pins: 1 GND (power), 2 IN (power), 3 OUT (power)

## LM79L12ACM
designator U?
Series 3-Terminal Negative Regulators, 8-pin Narrow SOIC; PartNumber: LM79L12ACM; Manufacturer: National Semiconductor; PackageTopMarking: NSZXTT*LM79L*12ACM; PowerWise: N; CompType: LDO IC; High-Reliability: Y; DatasheetVersion: Mar-2006; PackageVersion: revM, May-2009; PackageReference: M08A; PackageDescription: SOIC Narrow, 4.9 x 3.9 x 1.45mm, 8 Lead, 1.27mm Pitch; RoHS: N; PinCount: 8; Code_JEDEC: MS-012-AA; Code_IPC: SOIC127P600-8; ComponentLink1Description: Manufacturer URL; ComponentLink1URL: http://www.national.com/; ComponentLink2Description: LM79L12AC Datasheet; ComponentLink2URL: http://www.national.com/ds/LM/LM79L12.pdf; ComponentLink3Description: LM79L12AC Web Page; ComponentLink3URL: http://www.national.com/pf/LM/LM79L12AC.html; ComponentLink4Description: M08A Package Page; ComponentLink4URL: http://www.national.com/packaging/folders/m08a.html
footprint M08A_N (SOIC, 8-Leads, Body 4.9x3.9mm, Pitch 1.27mm, IPC Medium Density)
footprint M08A_L (SOIC, 8-Leads, Body 4.9x3.9mm, Pitch 1.27mm, IPC High Density)
footprint M08A_M (SOIC, 8-Leads, Body 4.9x3.9mm, Pitch 1.27mm, IPC Low Density)
pins: 1 OUT (power), 2 IN (power), 3 IN (power), 4 NC, 5 GND (in), 6 IN (power), 7 IN (power), 8 NC

## LM79L12ACM/NOPB
designator U?
Series 3-Terminal Negative Regulators, 8-pin Narrow SOIC, Pb-Free; PartNumber: LM79L12ACM/NOPB; Manufacturer: National Semiconductor; PackageTopMarking: NSZXTT*LM79L*12ACM; PowerWise: N; CompType: LDO IC; High-Reliability: Y; DatasheetVersion: Mar-2006; PackageVersion: revM, May-2009; PackageReference: M08A; PackageDescription: SOIC Narrow, 4.9 x 3.9 x 1.45mm, 8 Lead, 1.27mm Pitch; RoHS: Y; PinCount: 8; Code_JEDEC: MS-012-AA; Code_IPC: SOIC127P600-8; ComponentLink1Description: Manufacturer URL; ComponentLink1URL: http://www.national.com/; ComponentLink2Description: LM79L12AC Datasheet; ComponentLink2URL: http://www.national.com/ds/LM/LM79L12.pdf; ComponentLink3Description: LM79L12AC Web Page; ComponentLink3URL: http://www.national.com/pf/LM/LM79L12AC.html; ComponentLink4Description: M08A Package Page; ComponentLink4URL: http://www.national.com/packaging/folders/m08a.html
footprint M08A_N (SOIC, 8-Leads, Body 4.9x3.9mm, Pitch 1.27mm, IPC Medium Density)
footprint M08A_L (SOIC, 8-Leads, Body 4.9x3.9mm, Pitch 1.27mm, IPC High Density)
footprint M08A_M (SOIC, 8-Leads, Body 4.9x3.9mm, Pitch 1.27mm, IPC Low Density)
pins: 1 OUT (power), 2 IN (power), 3 IN (power), 4 NC, 5 GND (in), 6 IN (power), 7 IN (power), 8 NC

## LM79L12ACMX
designator U?
Series 3-Terminal Negative Regulators, 8-pin Narrow SOIC; PartNumber: LM79L12ACMX; Manufacturer: National Semiconductor; PackageTopMarking: NSZXTT*LM79L*12ACM; PowerWise: N; CompType: LDO IC; High-Reliability: Y; DatasheetVersion: Mar-2006; PackageVersion: revM, May-2009; PackageReference: M08A; PackageDescription: SOIC Narrow, 4.9 x 3.9 x 1.45mm, 8 Lead, 1.27mm Pitch; RoHS: N; PinCount: 8; Code_JEDEC: MS-012-AA; Code_IPC: SOIC127P600-8; ComponentLink1Description: Manufacturer URL; ComponentLink1URL: http://www.national.com/; ComponentLink2Description: LM79L12AC Datasheet; ComponentLink2URL: http://www.national.com/ds/LM/LM79L12.pdf; ComponentLink3Description: LM79L12AC Web Page; ComponentLink3URL: http://www.national.com/pf/LM/LM79L12AC.html; ComponentLink4Description: M08A Package Page; ComponentLink4URL: http://www.national.com/packaging/folders/m08a.html
footprint M08A_N (SOIC, 8-Leads, Body 4.9x3.9mm, Pitch 1.27mm, IPC Medium Density)
footprint M08A_L (SOIC, 8-Leads, Body 4.9x3.9mm, Pitch 1.27mm, IPC High Density)
footprint M08A_M (SOIC, 8-Leads, Body 4.9x3.9mm, Pitch 1.27mm, IPC Low Density)
pins: 1 OUT (power), 2 IN (power), 3 IN (power), 4 NC, 5 GND (in), 6 IN (power), 7 IN (power), 8 NC

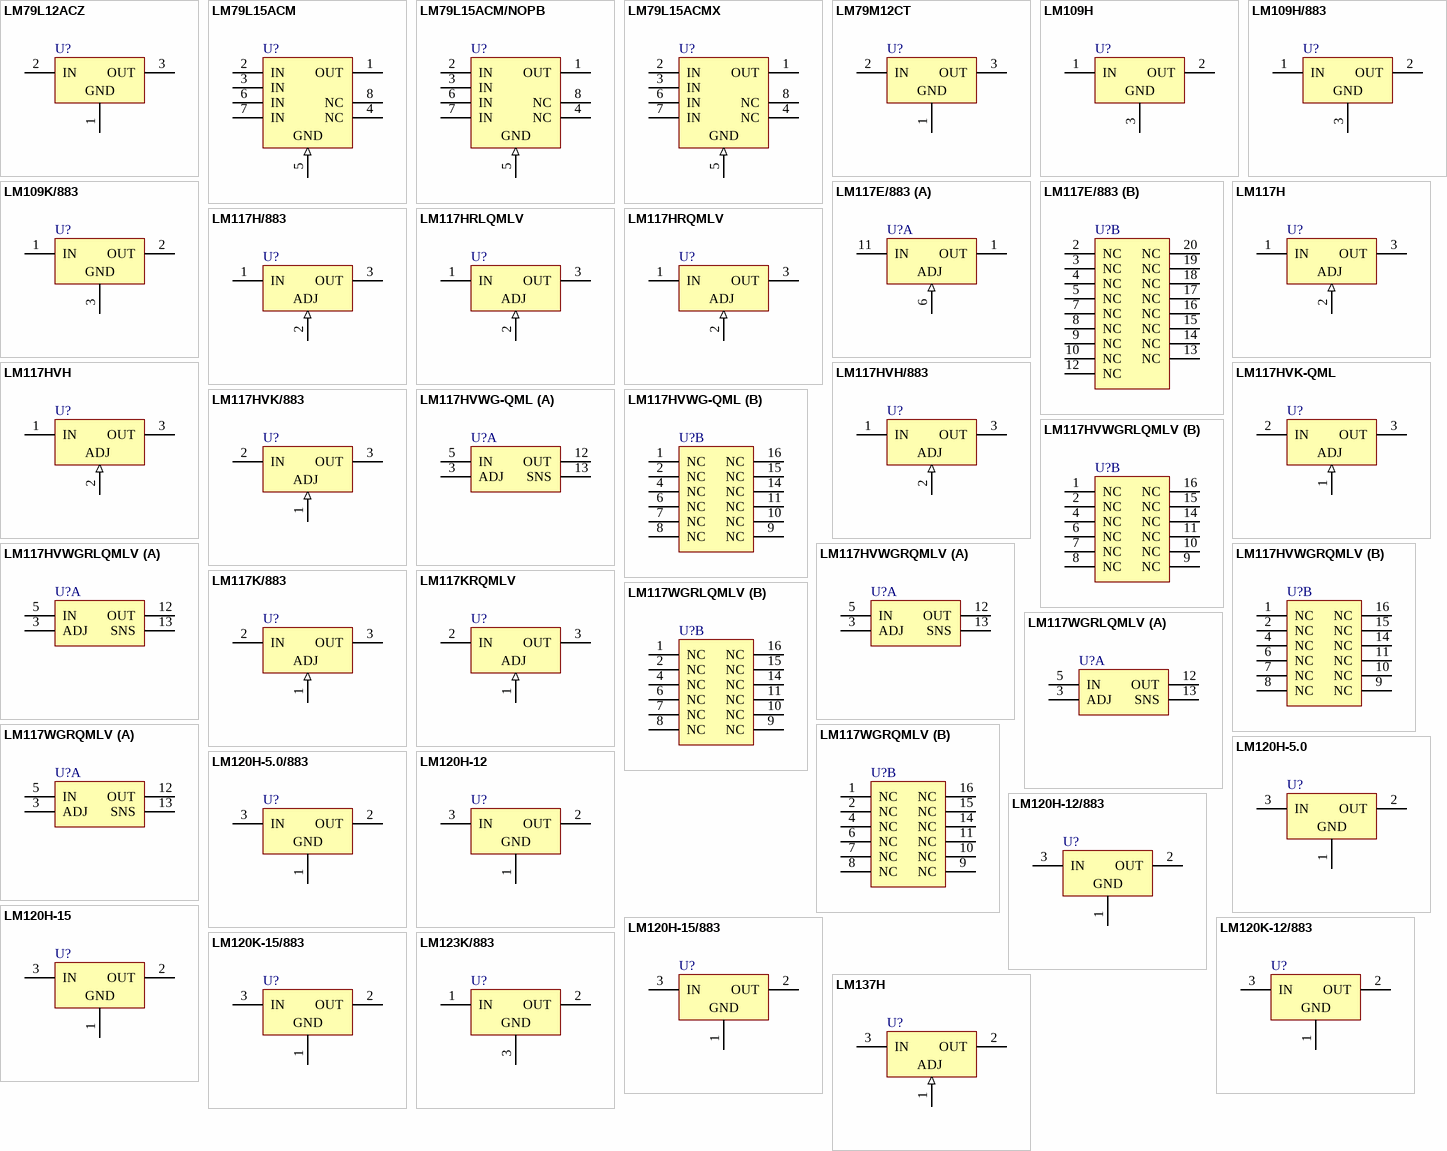
[diagram p1: symbols LM79L12ACZ to LM137H]

## LM79L12ACZ
designator U?
Series 3-Terminal Negative Regulators, 3-pin TO-92; PartNumber: LM79L12ACZ; Manufacturer: National Semiconductor; PackageTopMarking: NSXYTT*320L*79L12; PowerWise: N; CompType: LDO IC; High-Reliability: Y; DatasheetVersion: Mar-2006; PackageVersion: revG, Sep-2000; PackageReference: Z03A; PackageDescription: TO-92, Molded, 3 Lead; RoHS: N; PinCount: 3; Code_JEDEC: TO-226-AA; ComponentLink1Description: Manufacturer URL; ComponentLink1URL: http://www.national.com/; ComponentLink2Description: LM79L12AC Datasheet; ComponentLink2URL: http://www.national.com/ds/LM/LM79L12.pdf; ComponentLink3Description: LM79L12AC Web Page; ComponentLink3URL: http://www.national.com/pf/LM/LM79L12AC.html; ComponentLink4Description: Z03A Package Page; ComponentLink4URL: http://www.national.com/packaging/folders/z03a.html
footprint Z03A (TO, Flat Index; 3 In-Line, Axial Leads; Body Dia. 5mm; Leads 0.55 x 0.50 mm (max))
pins: 1 GND (power), 2 IN (power), 3 OUT (power)

## LM79L15ACM
designator U?
Series 3-Terminal Negative Regulators, 8-pin Narrow SOIC; PartNumber: LM79L15ACM; Manufacturer: National Semiconductor; PackageTopMarking: NSZXTT*LM79L*15ACM; PowerWise: N; CompType: LDO IC; High-Reliability: Y; DatasheetVersion: Mar-2006; PackageVersion: revM, May-2009; PackageReference: M08A; PackageDescription: SOIC Narrow, 4.9 x 3.9 x 1.45mm, 8 Lead, 1.27mm Pitch; RoHS: N; PinCount: 8; Code_JEDEC: MS-012-AA; Code_IPC: SOIC127P600-8; ComponentLink1Description: Manufacturer URL; ComponentLink1URL: http://www.national.com/; ComponentLink2Description: LM79L15AC Datasheet; ComponentLink2URL: http://www.national.com/ds/LM/LM79L15.pdf; ComponentLink3Description: LM79L15AC Web Page; ComponentLink3URL: http://www.national.com/pf/LM/LM79L15AC.html; ComponentLink4Description: M08A Package Page; ComponentLink4URL: http://www.national.com/packaging/folders/m08a.html
footprint M08A_N (SOIC, 8-Leads, Body 4.9x3.9mm, Pitch 1.27mm, IPC Medium Density)
footprint M08A_L (SOIC, 8-Leads, Body 4.9x3.9mm, Pitch 1.27mm, IPC High Density)
footprint M08A_M (SOIC, 8-Leads, Body 4.9x3.9mm, Pitch 1.27mm, IPC Low Density)
pins: 1 OUT (power), 2 IN (power), 3 IN (power), 4 NC, 5 GND (in), 6 IN (power), 7 IN (power), 8 NC

## LM79L15ACM/NOPB
designator U?
Series 3-Terminal Negative Regulators, 8-pin Narrow SOIC, Pb-Free; PartNumber: LM79L15ACM/NOPB; Manufacturer: National Semiconductor; PackageTopMarking: NSZXTT*LM79L*15ACM; PowerWise: N; CompType: LDO IC; High-Reliability: Y; DatasheetVersion: Mar-2006; PackageVersion: revM, May-2009; PackageReference: M08A; PackageDescription: SOIC Narrow, 4.9 x 3.9 x 1.45mm, 8 Lead, 1.27mm Pitch; RoHS: Y; PinCount: 8; Code_JEDEC: MS-012-AA; Code_IPC: SOIC127P600-8; ComponentLink1Description: Manufacturer URL; ComponentLink1URL: http://www.national.com/; ComponentLink2Description: LM79L15AC Datasheet; ComponentLink2URL: http://www.national.com/ds/LM/LM79L15.pdf; ComponentLink3Description: LM79L15AC Web Page; ComponentLink3URL: http://www.national.com/pf/LM/LM79L15AC.html; ComponentLink4Description: M08A Package Page; ComponentLink4URL: http://www.national.com/packaging/folders/m08a.html
footprint M08A_N (SOIC, 8-Leads, Body 4.9x3.9mm, Pitch 1.27mm, IPC Medium Density)
footprint M08A_L (SOIC, 8-Leads, Body 4.9x3.9mm, Pitch 1.27mm, IPC High Density)
footprint M08A_M (SOIC, 8-Leads, Body 4.9x3.9mm, Pitch 1.27mm, IPC Low Density)
pins: 1 OUT (power), 2 IN (power), 3 IN (power), 4 NC, 5 GND (in), 6 IN (power), 7 IN (power), 8 NC